# EAGLE library part EA_LED68X51_MONO (library ea_v66)
ELECRONIC ASSEMBLY GmbH EA LED68x51-A EA LED68x51-B EA LED68x51-G EA LED68x51-R EA LED68x51-W
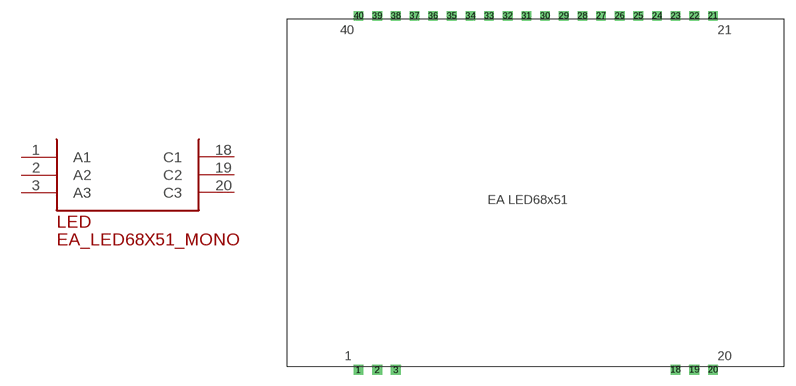
[diagram p3: symbol with the pads of EA_LED68X51; footprint EA_LED68X51]

Designator prefix LED

## EA_LED68X51_MONO  [EA_LED68X51]
1  A1  pas
2  A2  pas
3  A3  pas
18  C1  pas
19  C2  pas
20  C3  pas

## Footprint EA_LED68X51 (pad centres in mm)
drill 0.813 square: 1 0,0; 2 2.54,0; 3 5.08,0; 18 43.18,0; 19 45.72,0; 20 48.26,0; 21 48.26,48.26; 22 45.72,48.26; 23 43.18,48.26; 24 40.64,48.26; 25 38.1,48.26; 26 35.56,48.26; 27 33.02,48.26; 28 30.48,48.26; 29 27.94,48.26; 30 25.4,48.26; 31 22.86,48.26; 32 20.32,48.26; 33 17.78,48.26; 34 15.24,48.26; 35 12.7,48.26; 36 10.16,48.26; 37 7.62,48.26; 38 5.08,48.26; 39 2.54,48.26; 40 0,48.26